# Altium schematic symbol library MC14051BDR2G.SchLib: 1 symbol
Pins are listed as number, name and electrical type; pins without a type are passive.

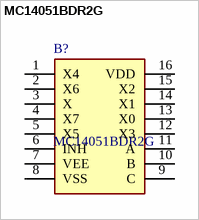
[diagram p0: symbol MC14051BDR2G]

## MC14051BDR2G
designator B?
Low-noise - 12 nV/sqrt.Cycle, f <= 1.0 kHz Typical; For 4PDT Switch, See MC14551B; Switch Function is Break Before Make; Supply Voltage Range = 3.0 Vdc to 18 Vdc; Analog Voltage Range (VDD - VEE) = 3.0 to 18 V Note: VEE must be <= VSS; Triple Diode Protection on Control Inputs; For Lower RON, Use the HC4051, HC4052, or HC4053 High-Speed CMOS Devices; Linearized Transfer Characteristics; Pin-for-Pin Replacement for CD4051, CD4052, and CD4053; Pb-Free Packages are Available*; Manufacturer_Name: onsemi; Geometry.Height: 1.75mm; Mouser Part Number: 863-MC14051BDR2G; Mouser Price/Stock: https://www.mouser.co.uk/ProductDetail/onsemi/MC14051BDR2G?qs=g2rIOKKlpoZiRT%252Bz5I%252B8eg%3D%3D; Manufacturer_Part_Number: MC14051BDR2G; Datasheet Link: https://www.onsemi.com/pub/Collateral/MC14051B-D.PDF
footprint SOIC127P600X175-16N
pins: 1 X4, 2 X6, 3 X, 4 X7, 5 X5, 6 INH, 7 VEE, 8 VSS, 9 C, 10 B, 11 A, 12 X3, 13 X0, 14 X1, 15 X2, 16 VDD